# Altium footprint library SD & sim.PcbLib: 4 footprints
Each footprint in its own frame and in the unit in brackets; x right, y up, seen from the top. Pads: shape width x height; smd on the part's side, far side on the other; paste and mask are expansions set on the pad; w line width, h text height; cw(c..) or ccw(c..) is an arc to the next point about the centre after c.
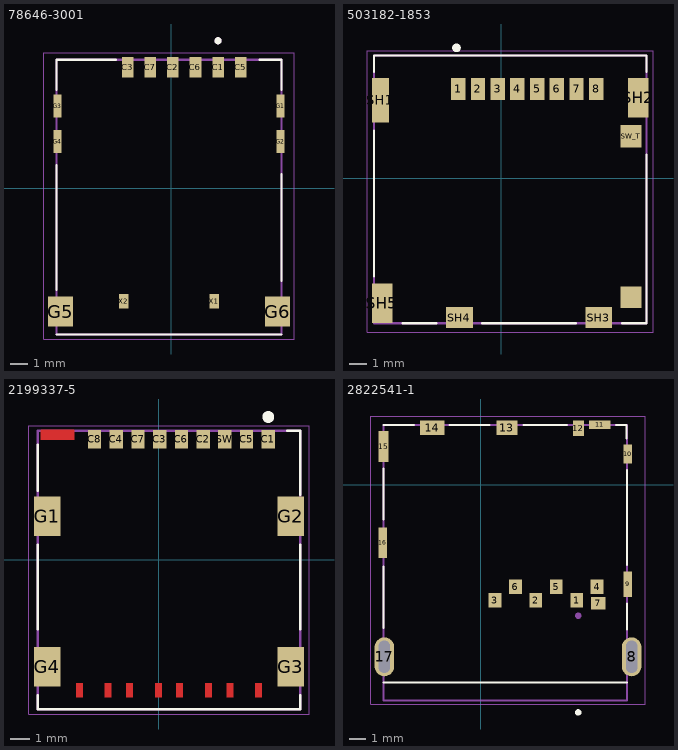
[diagram p0: the footprints below, top view; thin cyan lines are the x and y axes]

## 78646-3001 [mm]
pads (14):
  rect 0.65x1.15 smd: C1(2.628,6.787) C2(0.088,6.787) C3(-2.452,6.787) C5(3.898,6.787) C6(1.358,6.787) C7(-1.182,6.787)
  rect 0.45x1.3 smd: G1(6.143,4.617) G2(6.143,2.617) G3(-6.397,4.617) G4(-6.397,2.617)
  rect 1.4x1.7 smd: G5(-6.232,-6.943) G6(5.978,-6.943)
  rect 0.54x0.8 smd: X1(2.413,-6.363) X2(-2.667,-6.363)
Top Overlay:
  circle w0.2: c2.628,8.287 r0.1
  lines w0.127: -6.452,-8.233 6.198,-8.233 ; -6.452,-5.713 -6.452,1.287 ; -6.452,5.517 -6.452,7.217 -3.127,7.217 ; 4.953,7.217 6.198,7.217 6.198,5.517 ; 6.198,-5.213 6.198,0.787
Mechanical 13:
  circle w0.2: c2.628,8.287 r0.1
  lines w0.127: -6.452,-8.233 -6.452,7.217 6.198,7.217 6.198,-8.233 -6.452,-8.233
Mechanical 15:
  lines w0.05: -7.187,-8.483 6.923,-8.483 6.923,7.612 -7.187,7.612 -7.187,-8.483
3D body "78646-3001--3DModel-STEP-56544.STEP": height 1.55, standoff 0, extent -6.652,-8.198 6.398,7.252

## 503182-1853 [mm]
pads (15):
  rect 0.8x1.24 smd: 1(-2.392,4.97) 2(-1.292,4.97) 3(-0.192,4.97) 4(0.908,4.97) 5(2.008,4.97) 6(3.108,4.97) 7(4.208,4.97) 8(5.308,4.97)
  rect 1.16x1.2 smd: DET_T(7.248,-6.66)
  rect 0.95x2.5 smd: SH1(-6.737,4.34)
  rect 1.15x2.2 smd: SH2(7.653,4.49) SH5(-6.637,-6.99)
  rect 1.5x1.15 smd: SH3(5.448,-7.785) SH4(-2.332,-7.785)
  rect 1.16x1.25 smd: SW_T(7.248,2.34)
Top Overlay:
  circle w0.24: c-2.492,7.265 r0.12
  lines w0.127: -7.092,-5.485 -7.092,2.645 ; -7.092,5.915 -7.092,6.84 8.108,6.84 8.108,5.915 ; -5.492,-8.11 -3.602,-8.11 ; -1.052,-8.11 4.158,-8.11 ; 6.738,-8.11 8.108,-8.11 8.108,1.315
Mechanical 13:
  lines w0.127: -7.092,-8.11 8.108,-8.11 8.108,6.84 -7.092,6.84 -7.092,-8.11
Mechanical 15:
  lines w0.05: -7.462,-8.61 8.478,-8.61 8.478,7.09 -7.462,7.09 -7.462,-8.61
3D body "503182-1853--3DModel-STEP-56544.STEP": height 1.55, standoff 0, extent -6.962,-7.983 7.978,6.967

## 2199337-5 [mm]
pads (13):
  rect 0.67x0.95 smd: C1(5.538,6.117) C2(2.238,6.117) C3(0.038,6.117) C4(-2.162,6.117) C5(4.438,6.117) C6(1.138,6.117) C7(-1.062,6.117) C8(-3.262,6.117) SW(3.338,6.117)
  rect 1.35x2 smd: G1(-5.667,2.212) G2(6.683,2.212) G3(6.683,-5.408) G4(-5.667,-5.408)
Top Layer:
  region: -3.867,-6.958 -4.197,-6.958 -4.197,-6.258 -3.867,-6.258
  region: -1.327,-6.958 -1.657,-6.958 -1.657,-6.258 -1.327,-6.258
  region: 1.213,-6.958 0.883,-6.958 0.883,-6.258 1.213,-6.258
  region: 3.753,-6.958 3.423,-6.958 3.423,-6.258 3.753,-6.258
  region: -2.407,-6.958 -2.737,-6.958 -2.737,-6.258 -2.407,-6.258
  region: 5.213,-6.958 4.883,-6.958 4.883,-6.258 5.213,-6.258
  region: 2.673,-6.958 2.343,-6.958 2.343,-6.258 2.673,-6.258
  region: 0.133,-6.958 -0.197,-6.958 -0.197,-6.258 0.133,-6.258
  region: -4.282,6.092 -5.982,6.092 -5.982,6.592 -4.282,6.592
Top Overlay:
  circle w0.3: c5.538,7.242 r0.15
  lines w0.127: -6.142,-6.858 -6.142,-7.558 7.158,-7.558 7.158,-6.858 ; -6.142,-3.508 -6.142,0.762 ; -6.142,3.492 -6.142,5.842 ; 6.508,6.542 7.158,6.542 7.158,3.302 ; 7.158,-3.508 7.158,0.762
Top Paste:
  region: -3.867,-6.958 -4.197,-6.958 -4.197,-6.258 -3.867,-6.258
  region: -2.407,-6.958 -2.737,-6.958 -2.737,-6.258 -2.407,-6.258
  region: -1.327,-6.958 -1.657,-6.958 -1.657,-6.258 -1.327,-6.258
  region: 0.133,-6.958 -0.197,-6.958 -0.197,-6.258 0.133,-6.258
  region: 1.213,-6.958 0.883,-6.958 0.883,-6.258 1.213,-6.258
  region: 2.673,-6.958 2.343,-6.958 2.343,-6.258 2.673,-6.258
  region: 3.753,-6.958 3.423,-6.958 3.423,-6.258 3.753,-6.258
  region: 5.213,-6.958 4.883,-6.958 4.883,-6.258 5.213,-6.258
  region: -4.282,6.092 -5.982,6.092 -5.982,6.592 -4.282,6.592
Top Solder:
  region: -3.767,-7.062 -4.3,-7.062 -4.3,-6.158 -3.767,-6.158
  region: -2.307,-7.061 -2.839,-7.061 -2.839,-6.158 -2.307,-6.158
  region: -1.227,-7.07 -1.761,-7.07 -1.761,-6.158 -1.227,-6.158
  region: 1.313,-7.069 0.783,-7.069 0.783,-6.158 1.313,-6.158
  region: 3.853,-7.064 3.326,-7.064 3.326,-6.158 3.853,-6.158
  region: 0.233,-7.06 -0.297,-7.06 -0.297,-6.158 0.233,-6.158
  region: 2.773,-7.066 2.245,-7.066 2.245,-6.158 2.773,-6.158
  region: 5.313,-7.064 4.787,-7.064 4.787,-6.158 5.313,-6.158
  region: -4.182,6 -6.09,6 -6.09,6.692 -4.182,6.692
Mechanical 13:
  circle w0.3: c5.538,6.117 r0.15
  lines w0.127: -6.142,-7.558 7.158,-7.558 7.158,6.542 -6.142,6.542 -6.142,-7.558
  text "PCB EDGE" at -3.303,-9.401 h1.27
Mechanical 15:
  lines w0.05: -6.592,-7.808 7.608,-7.808 7.608,6.792 -6.592,6.792 -6.592,-7.808
3D body "c-2199337-5-a-3d.stp": height 0.98, standoff -0.22, extent -6.181,-7.62 7.239,6.48

## 2822541-1 [mm]
pads (17):
  rect 0.8x0.9 smd: 1(5.964,-7.182) 2(3.424,-7.182) 3(0.884,-7.182) 4(7.234,-6.332) 5(4.694,-6.332) 6(2.154,-6.332)
  rect 0.9x0.75 smd: 7(7.294,-7.357)
  oval 1.208x2.416 hole 0.7 slot 2 at 90 deg: 8(9.374,-10.682) 17(-5.976,-10.682)
  rect 0.54x1.6 smd: 9(9.124,-6.182)
  rect 0.54x1.17 smd: 10(9.124,1.903)
  rect 1.33x0.55 smd: 11(7.389,3.723)
  rect 0.7x0.98 smd: 12(6.074,3.508)
  rect 1.3x0.91 smd: 13(1.624,3.543)
  rect 1.53x0.91 smd: 14(-3.011,3.543)
  rect 0.6x1.9 smd: 15(-6.026,2.368)
  rect 0.5x1.9 smd: 16(-6.076,-3.602)
Top Overlay:
  circle w0.2: c6.059,-14.132 r0.1
  lines w0.127: -6.026,-12.282 9.074,-12.282 ; -6.026,-8.882 -6.026,-5.092 ; -6.026,-2.172 -6.026,1.018 ; -6.026,3.698 -4.141,3.698 ; -1.941,3.698 0.559,3.698 ; 2.659,3.698 5.359,3.698 ; 8.409,3.698 9.059,3.698 9.059,2.868 ; 9.074,-8.982 9.074,-7.382 ; 9.074,-4.982 9.074,0.918
Mechanical 13:
  circle w0.2: c6.059,-8.132 r0.1
  lines w0.127: -6.026,-13.382 9.074,-13.382 9.074,3.698 -6.026,3.698 -6.026,-13.382
Mechanical 15:
  lines w0.05: -6.831,-13.632 10.229,-13.632 10.229,4.248 -6.831,4.248 -6.831,-13.632
3D body "c-2822541-1-c-3d.stp": height 0.65, standoff -1.23, extent -6.219,-12.318 9.271,3.682